# Altium schematic symbol library TS4990.SchLib: 1 symbol
Pins are listed as number, name and electrical type; pins without a type are passive.

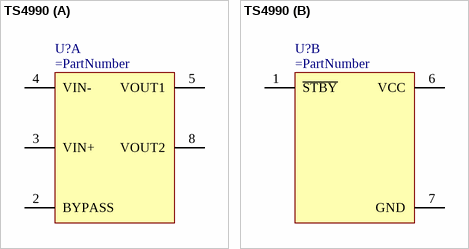
[diagram p0: symbol TS4990]

## TS4990
designator U?
part A pins: 2 BYPASS, 3 VIN+, 4 VIN-, 5 VOUT1, 8 VOUT2
part B pins: 1 ~{STBY}, 6 VCC, 7 GND